# Altium footprint library JR6001.PcbLib: 2 footprints
Each footprint in its own frame and in the unit in brackets; x right, y up, seen from the top. Pads: shape width x height; smd on the part's side, far side on the other; paste and mask are expansions set on the pad; w line width, h text height; cw(c..) or ccw(c..) is an arc to the next point about the centre after c.
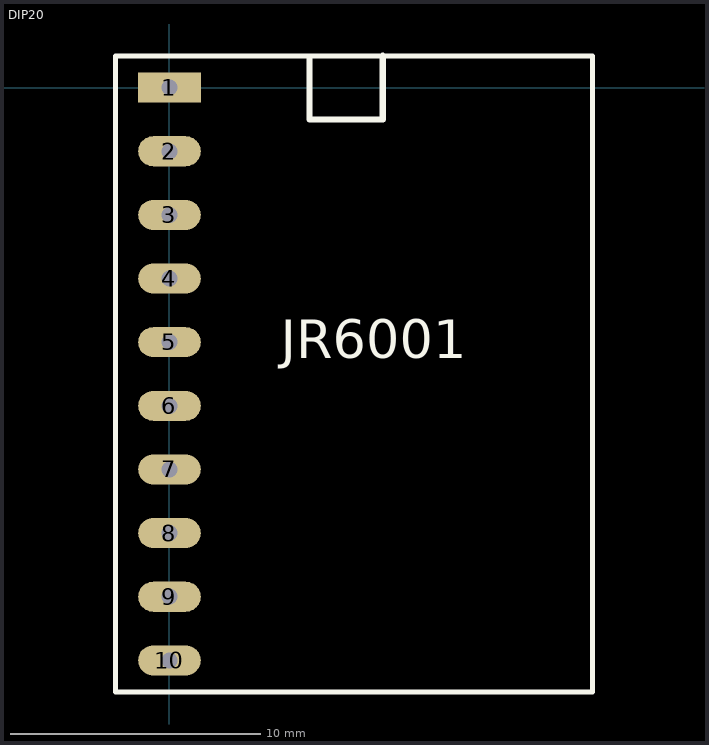
[diagram p0: the footprints below, top view; thin cyan lines are the x and y axes]

## DIP20 [mm]
pads (10):
  rect 2.5x1.2 hole 0.64: 1(0,0)
  oval 2.5x1.2 hole 0.64: 2(0,-2.54) 3(0,-5.08) 4(0,-7.62) 5(0,-10.16) 6(0,-12.7) 7(0,-15.24) 8(0,-17.78) 9(0,-20.32) 10(0,-22.86)
Top Overlay:
  lines w0.2: -2.159,-24.13 16.891,-24.13 16.891,1.27 -2.159,1.27 -2.159,-24.13
  lines w0.254: 5.588,1.143 5.588,-1.27 8.509,-1.27 8.509,1.27
  text "JR6001" at 4.446,-10.795 h1.52

## PCBComponent_1 [mm]